# EAGLE library part WS2811F (library WS2811F)
OUTRGB40VDINDOUT30V 36VVDD 256 IC PWM 2564KHz 4 30/1024 800Kbps Source: Datasheet <https://www.lcsc.com/datasheet/lcsc_datasheet_2412041609_Worldsemi-WS2811F_C5446692.pdf>
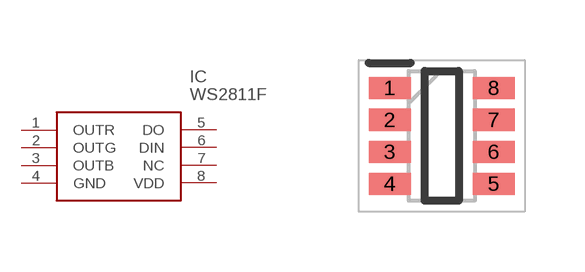
[diagram p0: symbol with the pads of SOT80P285X114-8N; footprint SOT80P285X114-8N]

Designator prefix IC

## WS2811F (Description: OUTRGB40VDINDOUT30V 36VVDD 256 IC PWM 2564KHz 4 30/1024 800Kbps; Height: 1.14mm; Manufacturer_Name: Worldsemi; Manufacturer_Part_Number: WS2811F)  [SOT80P285X114-8N]
1  OUTR
2  OUTG
3  OUTB
4  GND
5  DO
6  DIN
7  NC  nc
8  VDD

## Footprint SOT80P285X114-8N (pad centres in mm)
SOT23-8..
smd 1.05 x 0.55: 1 -1.3,1.2; 2 -1.3,0.4; 3 -1.3,-0.4; 4 -1.3,-1.2; 5 1.3,-1.2; 6 1.3,-0.4; 7 1.3,0.4; 8 1.3,1.2